# EAGLE library part 1508ПЛ9Т (library microwave)
АЕЯР.431320.597 ТУ 1508ПЛ9Т - Синтезатор частот на основе ФАПЧ. Предназначена для использования в синтезаторах несущих и гетеродинных частот, а также в синтезаторах сигналов приемопередающих устройств радиолокационных и связных комплексов в VHF, UHF, L, P и S диапазонах. Производитель: ОАО НПЦ «ЭЛВИС», г. Москва. Технические условия: АЕЯР.431320.597 ТУ
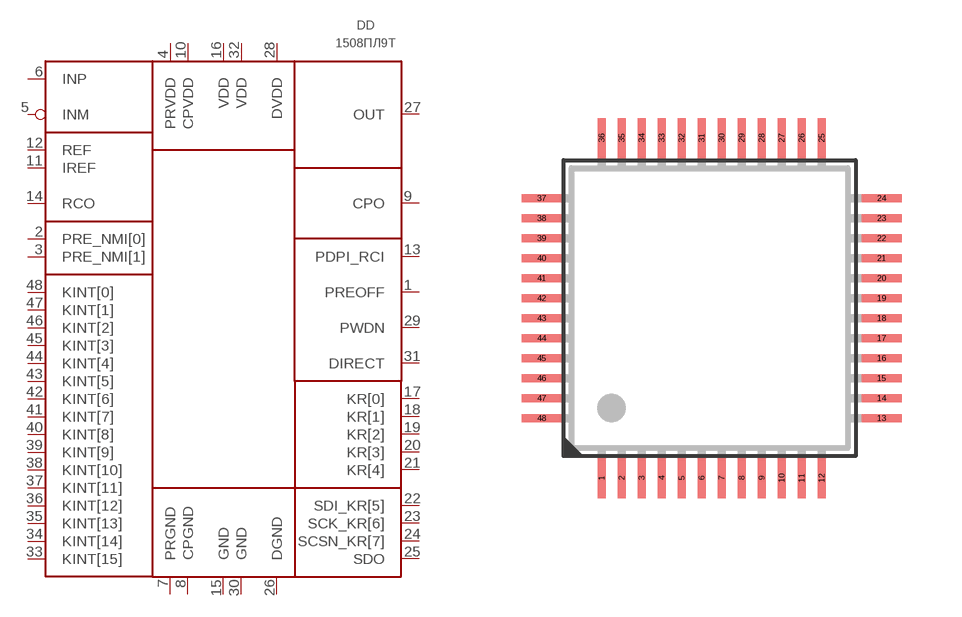
[diagram p4: symbol with the pads of LQFP48; footprint LQFP48]

Designator prefix DD

## 1508ПЛ9Т  [LQFP48]
1  PREOFF  in
2  PRE_NMI[0]  in
3  PRE_NMI[1]  in
4  PRVDD  pwr
5  INM  in
6  INP  in
7  PRGND  pwr
8  CPGND  pwr
9  CPO  out
10  CPVDD  pwr
11  IREF  in
12  REF  in
13  PDPI_RCI  in
14  RCO  out
15  GND  pwr
16  VDD  pwr
17  KR[0]  in
18  KR[1]  in
19  KR[2]  in
20  KR[3]  in
21  KR[4]  in
22  SDI_KR[5]  in
23  SCK_KR[6]  in
24  SCSN_KR[7]  in
25  SDO  out
26  DGND  pwr
27  OUT  out
28  DVDD  pwr
29  PWDN  in
30  GND  pwr
31  DIRECT  in
32  VDD  pwr
33  KINT[15]  in
34  KINT[14]  in
35  KINT[13]  in
36  KINT[12]  in
37  KINT[11]  in
38  KINT[10]  in
39  KINT[9]  in
40  KINT[8]  in
41  KINT[7]  in
42  KINT[6]  in
43  KINT[5]  in
44  KINT[4]  in
45  KINT[3]  in
46  KINT[2]  in
47  KINT[1]  in
48  KINT[0]  in

## Footprint LQFP48 (pad centres in mm)
48-pin plastic LQFP (FPT-48P-M26) www.fma.fujitsu.com/pdf/e713717.pdf
smd 0.2 x 1: 1 -2.75,-4.25; 2 -2.25,-4.25; 3 -1.75,-4.25; 4 -1.25,-4.25; 5 -0.75,-4.25; 6 -0.25,-4.25; 7 0.25,-4.25; 8 0.75,-4.25; 9 1.25,-4.25; 10 1.75,-4.25; 11 2.25,-4.25; 12 2.75,-4.25; 25 2.75,4.25; 26 2.25,4.25; 27 1.75,4.25; 28 1.25,4.25; 29 0.75,4.25; 30 0.25,4.25; 31 -0.25,4.25; 32 -0.75,4.25; 33 -1.25,4.25; 34 -1.75,4.25; 35 -2.25,4.25; 36 -2.75,4.25
smd 1 x 0.2: 13 4.25,-2.75; 14 4.25,-2.25; 15 4.25,-1.75; 16 4.25,-1.25; 17 4.25,-0.75; 18 4.25,-0.25; 19 4.25,0.25; 20 4.25,0.75; 21 4.25,1.25; 22 4.25,1.75; 23 4.25,2.25; 24 4.25,2.75; 37 -4.25,2.75; 38 -4.25,2.25; 39 -4.25,1.75; 40 -4.25,1.25; 41 -4.25,0.75; 42 -4.25,0.25; 43 -4.25,-0.25; 44 -4.25,-0.75; 45 -4.25,-1.25; 46 -4.25,-1.75; 47 -4.25,-2.25; 48 -4.25,-2.75